# EAGLE library part MAX487 (library angrypig7-IC)
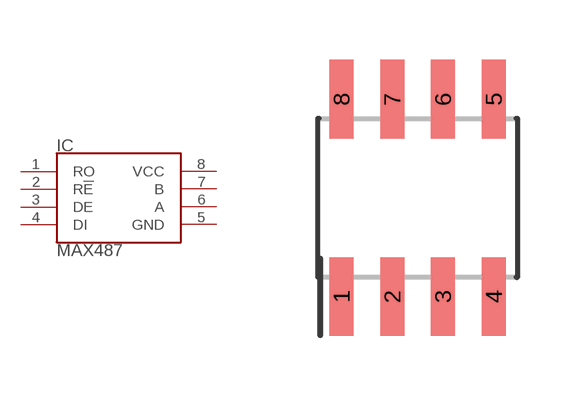
[diagram p14: symbol with the pads of SOIC-8_150MIL; footprint SOIC-8_150MIL]

Designator prefix IC

## MAX487  [SOIC-8_150MIL]
1  RO
2  R!E
3  DE
4  DI
5  GND
6  A
7  B
8  VCC

## Footprint SOIC-8_150MIL (pad centres in mm)
8-SOIC, 1.27 mm pitch, 6.00 mm span, 4.91 X 3.90 X 1.75 mm body 8-pin SOIC package with 1.27 mm pitch, 6.00 mm span with body size 4.91 X 3.90 X 1.75 mm
smd 0.599 x 1.967: 1 -1.905,-2.469; 2 -0.635,-2.469; 3 0.635,-2.469; 4 1.905,-2.469; 5 1.905,2.469; 6 0.635,2.469; 7 -0.635,2.469; 8 -1.905,2.469